# EAGLE library part LM3478 (library AKA_lib)
LM3478x/-Q1 High-Efficiency Low-Side N-Channel Controller for Switching Regulator Datasheet <http://www.ti.com/lit/ds/symlink/lm3478.pdf>
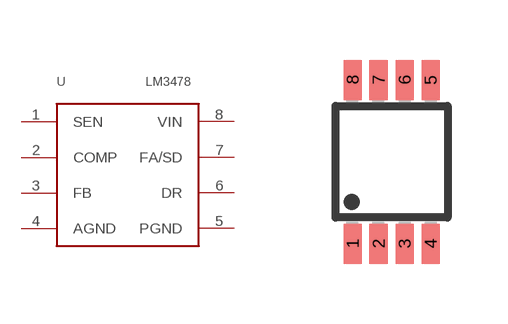
[diagram p11: symbol with the pads of MSOP8; footprint MSOP8]

Designator prefix U

## LM3478  [MSOP8]
1  SEN  in
2  COMP  in
3  FB  in
4  AGND  pwr
5  PGND  pwr
6  DR  out
7  FA/SD  in
8  VIN  pwr

## Footprint MSOP8 (pad centres in mm)
Micro Small Outline Package Grid .65mm
smd 0.45 x 1: 1 -0.975,-2.05; 2 -0.325,-2.05; 3 0.325,-2.05; 4 0.975,-2.05; 5 0.975,2.05; 6 0.325,2.05; 7 -0.325,2.05; 8 -0.975,2.05